# EAGLE library part IC_DIL20 (library dp_devices)
Universal 20pins IC
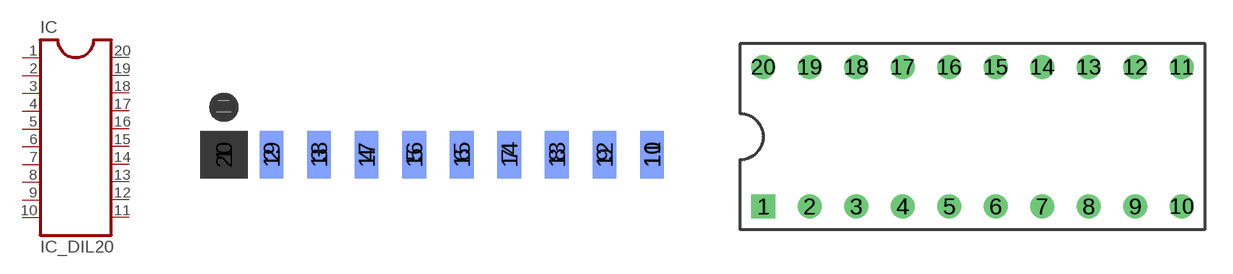
[diagram p36: symbol with the pads of EGDE2X10; footprints EGDE2X10, DIP20]

Designator prefix IC

## IC_DIL20-EDGE  [EGDE2X10]
1  1
2  2
3  3
4  4
5  5
6  6
7  7
8  8
9  9
10  10
11  11
12  12
13  13
14  14
15  15
16  16
17  17
18  18
19  19
20  20

## IC_DIL20-PTH  [DIP20]
Pads as for EGDE2X10

## IC_DIL20-SOIC-20NW  [SOIC-20NW]
P1  1
P2  2
P3  3
P4  4
P5  5
P6  6
P7  7
P8  8
P9  9
P10  10
P11  11
P12  12
P13  13
P14  14
P15  15
P16  16
P17  17
P18  18
P19  19
P20  20

## Footprint EGDE2X10 (pad centres in mm)
smd 1.27 x 2.54: 1 -11.43,0; 2 -8.89,0; 3 -6.35,0; 4 -3.81,0; 5 -1.27,0; 6 1.27,0; 7 3.81,0; 8 6.35,0; 9 8.89,0; 10 11.43,0
smd 1.27 x 2.54 bottom: 11 11.43,0; 12 8.89,0; 13 6.35,0; 14 3.81,0; 15 1.27,0; 16 -1.27,0; 17 -3.81,0; 18 -6.35,0; 19 -8.89,0; 20 -11.43,0

## Footprint DIP20 (pad centres in mm)
drill 0.8 square: 1 -11.43,-3.81
drill 0.8 round: 2 -8.89,-3.81; 3 -6.35,-3.81; 4 -3.81,-3.81; 5 -1.27,-3.81; 6 1.27,-3.81; 7 3.81,-3.81; 8 6.35,-3.81; 9 8.89,-3.81; 10 11.43,-3.81; 11 11.43,3.81; 12 8.89,3.81; 13 6.35,3.81; 14 3.81,3.81; 15 1.27,3.81; 16 -1.27,3.81; 17 -3.81,3.81; 18 -6.35,3.81; 19 -8.89,3.81; 20 -11.43,3.81

## Footprint SOIC-20NW (pad centres in mm)
SSOP-20 Narrow - Wide Pad size: 0.6 x 3.56 mm Pad pitch: 1.27mm Pad pitch lateral: 7.56mm
smd 0.6 x 3.56: P1 -5.715,-3.78; P2 -4.445,-3.78; P3 -3.175,-3.78; P4 -1.905,-3.78; P5 -0.635,-3.78; P6 0.635,-3.78; P7 1.905,-3.78; P8 3.175,-3.78; P9 4.445,-3.78; P10 5.715,-3.78; P11 5.715,3.78; P12 4.445,3.78; P13 3.175,3.78; P14 1.905,3.78; P15 0.635,3.78; P16 -0.635,3.78; P17 -1.905,3.78; P18 -3.175,3.78; P19 -4.445,3.78; P20 -5.715,3.78